# EAGLE library part PCM4202 (library BurrBrownAudioParts)
PCM4202: High Performance 24-Bit, 216kHz Sampling Stereo Audio A/D Converter (Rev. B) The PCM4202 is a high-performance, stereo audio analog-to-digital (A/D) converter designed for professional and broadcast audio applications. The PCM4202 architecture utilizes a 1-bit delta-sigma modulator per channel, incorporating a novel density modulated dither scheme for improved dynamic performance. The PCM4202 supports 24-bit linear PCM output data, with sampling frequencies up to 216kHz. The PCM4202 can also be configured to output either 64x or 128x oversampled, 1-bit direct stream digital (DSD) data for each channel. Support for PCM and DSD output formats makes the PCM4202 suitable for a variety of digital audio recording and processing applications. The PCM4202 includes a flexible audio serial port interface, which supports standard audio data formats. Audio data format selection, sampling mode configuration, and high-pass filter functions are all programmed using dedicated control pins. The PCM4202 operates from a +5V analog power supply and a +3.3V digital power supply. The digital I/O pins are compatible with +3.3V logic families. The PCM4202 is available in a small SSOP-28 package.
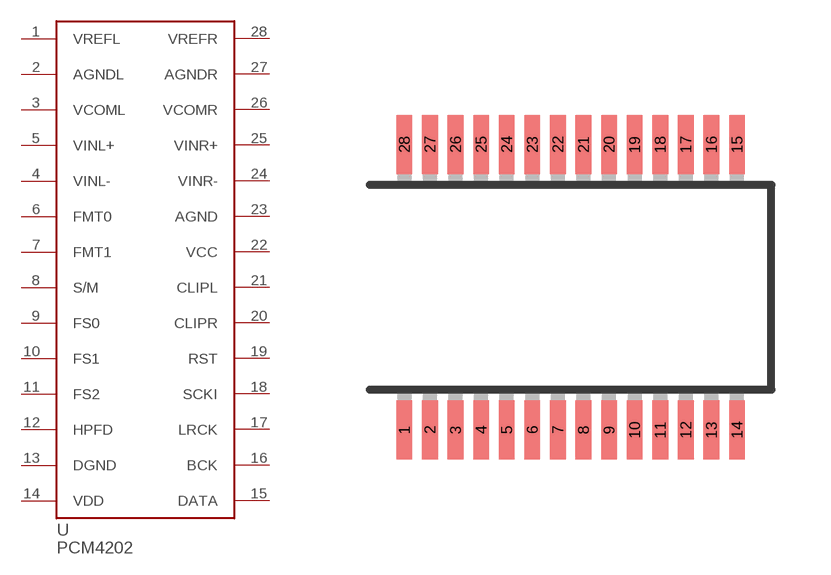
[diagram p10: symbol with the pads of SSOP28; footprint SSOP28]

Designator prefix -

## PCM4202  [SSOP28]
1  VREFL
2  AGNDL
3  VCOML
4  VINL-
5  VINL+
6  FMT0
7  FMT1
8  S/M
9  FS0
10  FS1
11  FS2
12  HPFD
13  DGND
14  VDD
15  DATA
16  BCK
17  LRCK
18  SCKI
19  RST
20  CLIPR
21  CLIPL
22  VCC
23  AGND
24  VINR-
25  VINR+
26  VCOMR
27  AGNDR
28  VREFR

## Footprint SSOP28 (pad centres in mm)
Shrink Small Outline Package package type SS
smd 0.4 x 1.5: 1 -4.225,-3.625; 2 -3.575,-3.625; 3 -2.925,-3.625; 4 -2.275,-3.625; 5 -1.625,-3.625; 6 -0.975,-3.625; 7 -0.325,-3.625; 8 0.325,-3.625; 9 0.975,-3.625; 10 1.625,-3.625; 11 2.275,-3.625; 12 2.925,-3.625; 13 3.575,-3.625; 14 4.225,-3.625; 15 4.225,3.625; 16 3.575,3.625; 17 2.925,3.625; 18 2.275,3.625; 19 1.625,3.625; 20 0.975,3.625; 21 0.325,3.625; 22 -0.325,3.625; 23 -0.975,3.625; 24 -1.625,3.625; 25 -2.275,3.625; 26 -2.925,3.625; 27 -3.575,3.625; 28 -4.225,3.625